# Altium footprint library Capacitor.PcbLib: 12 footprints
Each footprint in its own frame and in the unit in brackets; x right, y up, seen from the top. Pads: shape width x height; smd on the part's side, far side on the other; paste and mask are expansions set on the pad; w line width, h text height; cw(c..) or ccw(c..) is an arc to the next point about the centre after c.
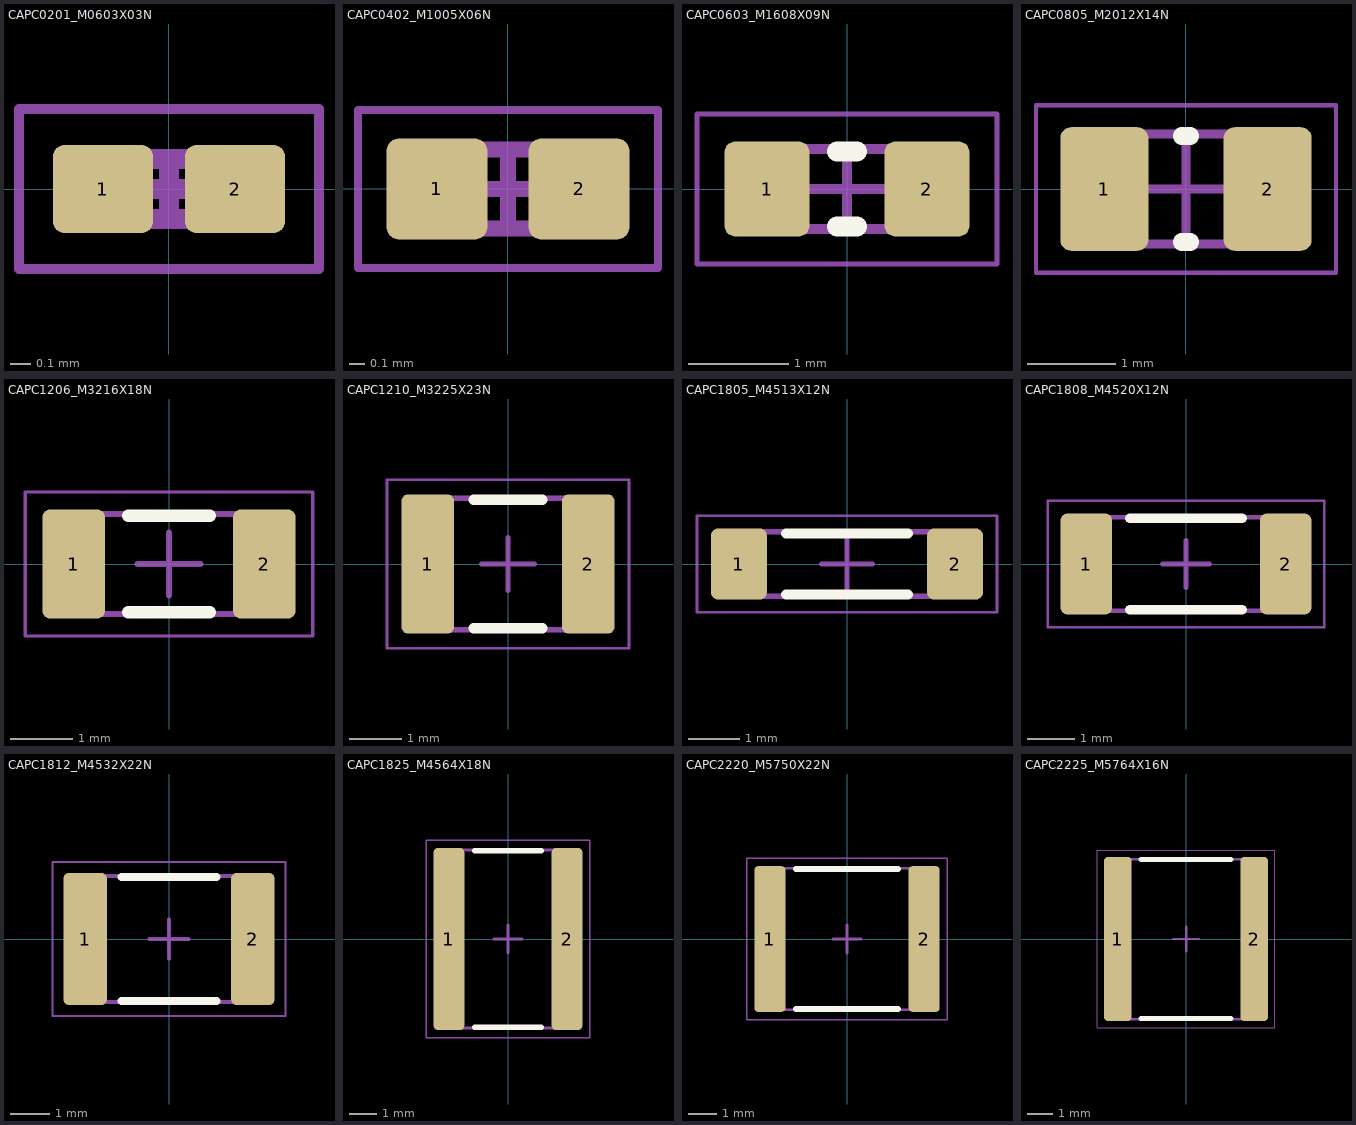
[diagram p0: the footprints below, top view; thin cyan lines are the x and y axes]

## CAPC0201_M0603X03N [mm] "Chip Capacitor, 2-Leads, Body 0.60x0.30mm, IPC Medium Density"
height 0.33
pads (2):
  rrect25% 0.5x0.44 smd: 1(-0.33,0) 2(0.33,0)
Mechanical 13:
  lines w0.1: -0.3,-0.15 -0.3,0.15 0.3,0.15 0.3,-0.15 -0.3,-0.15
Mechanical 15:
  lines w0.05: -0.75,-0.4 -0.75,0.4 0.75,0.4 0.75,-0.4 -0.75,-0.4
  lines w0.1: -0.15,0 0.15,0 ; 0,-0.15 0,0.15
3D body "CAPC0201_M0603X03N.step": height 0.33, standoff 0, extent -0.315,-0.165 0.315,0.165

## CAPC0402_M1005X06N [mm] "Chip Capacitor, 2-Leads, Body 1.00x0.50mm, IPC Medium Density"
height 0.6
pads (2):
  rrect25% 0.64x0.64 smd: 1(-0.45,0) 2(0.45,0)
Mechanical 13:
  lines w0.1: -0.5,-0.25 0.5,-0.25 0.5,0.25 -0.5,0.25 -0.5,-0.25
Mechanical 15:
  lines w0.05: -0.95,-0.5 0.95,-0.5 0.95,0.5 -0.95,0.5 -0.95,-0.5
  lines w0.1: -0.25,0 0.25,0 ; 0,-0.25 0,0.25
3D body "CAPC0402_M1005X06N.step": height 0.6, standoff 0, extent -0.525,-0.275 0.525,0.275

## CAPC0603_M1608X09N [mm] "Chip Capacitor, 2-Leads, Body 1.60x0.80mm, IPC Medium Density"
height 0.92
pads (2):
  rrect25% 0.85x0.95 smd: 1(-0.8,0) 2(0.8,0)
Top Overlay:
  lines w0.2: -0.1,-0.375 0.1,-0.375 ; -0.1,0.375 0.1,0.375
Mechanical 13:
  lines w0.1: -0.8,-0.4 -0.8,0.4 0.8,0.4 0.8,-0.4 -0.8,-0.4
Mechanical 15:
  lines w0.05: -1.5,-0.75 -1.5,0.75 1.5,0.75 1.5,-0.75 -1.5,-0.75
  lines w0.1: -0.4,0 0.4,0 ; 0,-0.4 0,0.4
3D body "CAPC0603_M1608X09N.step": height 0.92, standoff 0, extent -0.875,-0.475 0.875,0.475

## CAPC0805_M2012X14N [mm] "Chip Capacitor, 2-Leads, Body 2.00x1.25mm, IPC Medium Density"
height 1.4
pads (2):
  rrect25% 1x1.4 smd: 1(-0.925,0) 2(0.925,0)
Top Overlay:
  lines w0.2: -0.05,-0.6 0.05,-0.6 ; -0.05,0.6 0.05,0.6
Mechanical 13:
  lines w0.1: -1,-0.625 -1,0.625 1,0.625 1,-0.625 -1,-0.625
Mechanical 15:
  lines w0.05: -1.7,-0.95 -1.7,0.95 1.7,0.95 1.7,-0.95 -1.7,-0.95
  lines w0.1: -0.5,0 0.5,0 ; 0,-0.5 0,0.5
3D body "CAPC0805_M2012X14NA.step": height 1.4, standoff 0, extent -1,-0.625 1,0.625

## CAPC1206_M3216X18N [mm] "Chip Capacitor, 2-Leads, Body 3.20x1.60mm, IPC Medium Density"
height 1.8
pads (2):
  rrect25% 1x1.75 smd: 1(-1.525,0) 2(1.525,0)
Top Overlay:
  lines w0.2: -0.65,-0.775 0.65,-0.775 ; -0.65,0.775 0.65,0.775
Mechanical 13:
  lines w0.1: -1.6,-0.8 1.6,-0.8 1.6,0.8 -1.6,0.8 -1.6,-0.8
Mechanical 15:
  lines w0.05: -2.3,-1.15 2.3,-1.15 2.3,1.15 -2.3,1.15 -2.3,-1.15
  lines w0.1: -0.5,0 0.5,0 ; 0,-0.5 0,0.5
3D body "CAPC1206_M3216X18N.step": height 1.8, standoff 0, extent -1.6,-0.8 1.6,0.8

## CAPC1210_M3225X23N [mm] "Chip Capacitor, 2-Leads, Body 3.20x2.50mm, IPC Medium Density"
height 2.3
pads (2):
  rrect25% 1x2.65 smd: 1(-1.525,0) 2(1.525,0)
Top Overlay:
  lines w0.2: -0.65,-1.225 0.65,-1.225 ; -0.65,1.225 0.65,1.225
Mechanical 13:
  lines w0.1: -1.6,-1.25 -1.6,1.25 1.6,1.25 1.6,-1.25 -1.6,-1.25
Mechanical 15:
  lines w0.05: -2.3,-1.6 -2.3,1.6 2.3,1.6 2.3,-1.6 -2.3,-1.6
  lines w0.1: -0.5,0 0.5,0 ; 0,-0.5 0,0.5
3D body "CAPC1210_M3225X23N.step": height 2.3, standoff 0, extent -1.6,-1.25 1.6,1.25

## CAPC1805_M4513X12N [mm] "Chip Capacitor, 2-Leads, Body 4.50x1.27mm, IPC Medium Density"
height 1.15
pads (2):
  rrect25% 1.1x1.4 smd: 1(-2.125,0) 2(2.125,0)
Top Overlay:
  lines w0.2: -1.2,-0.6 1.2,-0.6 ; -1.2,0.6 1.2,0.6
Mechanical 13:
  lines w0.1: -2.25,-0.635 -2.25,0.635 2.25,0.635 2.25,-0.635 -2.25,-0.635
Mechanical 15:
  lines w0.05: -2.95,-0.95 -2.95,0.95 2.95,0.95 2.95,-0.95 -2.95,-0.95
  lines w0.1: -0.5,0 0.5,0 ; 0,-0.5 0,0.5
3D body "CAPC1805_M4513X12N.step": height 1.15, standoff 0, extent -2.25,-0.635 2.25,0.635

## CAPC1808_M4520X12N [mm] "Chip Capacitor, 2-Leads, Body 4.50x2.00mm, IPC Medium Density"
height 1.15
pads (2):
  rrect25% 1.1x2.15 smd: 1(-2.125,0) 2(2.125,0)
Top Overlay:
  lines w0.2: -1.2,-0.975 1.2,-0.975 ; -1.2,0.975 1.2,0.975
Mechanical 13:
  lines w0.1: -2.25,-1 2.25,-1 2.25,1 -2.25,1 -2.25,-1
Mechanical 15:
  lines w0.05: -2.95,-1.35 2.95,-1.35 2.95,1.35 -2.95,1.35 -2.95,-1.35
  lines w0.1: -0.5,0 0.5,0 ; 0,-0.5 0,0.5
3D body "CAPC1808_M4520X12N.step": height 1.15, standoff 0, extent -2.25,-1 2.25,1

## CAPC1812_M4532X22N [mm] "Chip Capacitor, 2-Leads, Body 4.50x3.20mm, IPC Medium Density"
height 2.2
pads (2):
  rrect25% 1.1x3.35 smd: 1(-2.125,0) 2(2.125,0)
Top Overlay:
  lines w0.2: -1.2,-1.575 1.2,-1.575 ; -1.2,1.575 1.2,1.575
Mechanical 13:
  lines w0.1: -2.25,-1.6 2.25,-1.6 2.25,1.6 -2.25,1.6 -2.25,-1.6
Mechanical 15:
  lines w0.05: -2.95,-1.95 2.95,-1.95 2.95,1.95 -2.95,1.95 -2.95,-1.95
  lines w0.1: -0.5,0 0.5,0 ; 0,-0.5 0,0.5
3D body "CAPC1812_M4532X22N.step": height 2.2, standoff 0, extent -2.25,-1.6 2.25,1.6

## CAPC1825_M4564X18N [mm] "Chip Capacitor, 2-Leads, Body 4.50x6.40mm, IPC Medium Density"
height 1.8
pads (2):
  rrect25% 1.1x6.55 smd: 1(-2.125,0) 2(2.125,0)
Top Overlay:
  lines w0.2: -1.2,-3.175 1.2,-3.175 ; -1.2,3.175 1.2,3.175
Mechanical 13:
  lines w0.1: -2.25,-3.2 2.25,-3.2 2.25,3.2 -2.25,3.2 -2.25,-3.2
Mechanical 15:
  lines w0.05: -2.95,-3.55 2.95,-3.55 2.95,3.55 -2.95,3.55 -2.95,-3.55
  lines w0.1: -0.5,0 0.5,0 ; 0,-0.5 0,0.5
3D body "CAPC1825_M4564X18N.step": height 1.8, standoff 0, extent -2.25,-3.2 2.25,3.2

## CAPC2220_M5750X22N [mm] "Chip Capacitor, 2-Leads, Body 5.70x5.00mm, IPC Medium Density"
height 2.2
pads (2):
  rrect25% 1.1x5.15 smd: 1(-2.725,0) 2(2.725,0)
Top Overlay:
  lines w0.2: -1.8,-2.475 1.8,-2.475 ; -1.8,2.475 1.8,2.475
Mechanical 13:
  lines w0.1: -2.85,-2.5 -2.85,2.5 2.85,2.5 2.85,-2.5 -2.85,-2.5
Mechanical 15:
  lines w0.05: -3.55,-2.85 -3.55,2.85 3.55,2.85 3.55,-2.85 -3.55,-2.85
  lines w0.1: -0.5,0 0.5,0 ; 0,-0.5 0,0.5
3D body "CAPC2220_M5750X22N.step": height 2.2, standoff 0, extent -2.85,-2.5 2.85,2.5

## CAPC2225_M5764X16N [mm] "Chip Capacitor, 2-Leads, Body 5.70x6.40mm, IPC Medium Density"
height 1.55
pads (2):
  rrect25% 1.1x6.55 smd: 1(-2.725,0) 2(2.725,0)
Top Overlay:
  lines w0.2: -1.8,-3.175 1.8,-3.175 ; -1.8,3.175 1.8,3.175
Mechanical 13:
  lines w0.1: -2.85,-3.2 2.85,-3.2 2.85,3.2 -2.85,3.2 -2.85,-3.2
Mechanical 15:
  lines w0.05: -3.55,-3.55 3.55,-3.55 3.55,3.55 -3.55,3.55 -3.55,-3.55
  lines w0.1: -0.5,0 0.5,0 ; 0,-0.5 0,0.5
3D body "CAPC2225_M5764X16N.step": height 1.55, standoff 0, extent -2.85,-3.2 2.85,3.2